# Altium schematic symbol library Components - 14.05.19 - 22.46.SchLib: 1 symbol
Pins are listed as number, name and electrical type; pins without a type are passive.

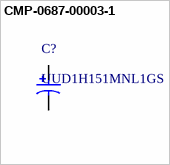
[diagram p0: symbol CMP-0687-00003-1]

## CMP-0687-00003-1
designator C?, comment UUD1H151MNL1GS
Aluminum Electrolytic Capacitor, UD Series, Low Impedance, 150 uF, 50 V, + / - 20%, -55 to 105 degC, Chip Type, 10 x 10 mm D x L, Pb-Free, Reel; Manufacturer: Nichicon; Rated Ripple Current (at 100kHz): 670 mA; Impedance: 0.18 Ohm; Packing: Dia382mm Reel; Rated Capacitance: 150 uF; Tolerance Rated Capacitance: -20 to 20%; Rated Voltage: 50 V; Endurance Time: 5000 h; ComponentLink3URL: http://products.nichicon.co.jp/en/pdf/XJA043/e-ud.pdf; ComponentLink1URL: http://www.nichicon.co.jp/; ComponentLink2Description: Datasheet; Diameter: 10 mm; ComponentLink3Description: Package Specification; PartNumber: UUD1H151MNL1GS; PackageDescription: 2-Pin Surface Mount Device, Diameter 10 mm, Height 10 mm, Pitch 8 mm; ComponentLink1Description: Manufacturer URL; DatasheetVersion: 08/2012; Length: 10 mm; PackageReference: CAPAE-D10H10; RoHS: TRUE; Mounting Technology: Surface Mount; ComponentLink2URL: http://products.nichicon.co.jp/en/pdf/XJA043/e-ud.pdf
footprint NIC-CAPA2-10X10_V (Aluminum Electrolytic Capacitor, Diameter 10mm, Height 10.8mm, Pitch 8mm)
pins: 1, 2